# EAGLE library part L293DD (library CyberRailGuru)
PUSH-PULL 4 CHANNEL DRIVER
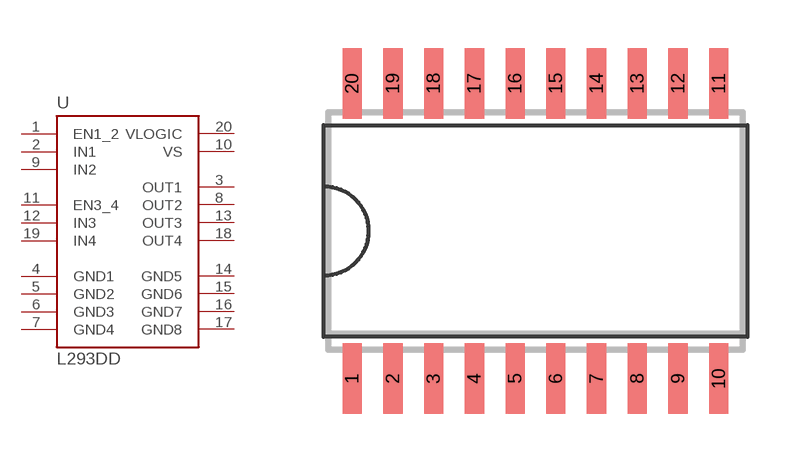
[diagram p2: symbol with the pads of SO20; footprint SO20]

Designator prefix U

## L293DD  [SO20]
1  EN1_2  in
2  IN1  in
3  OUT1  out
4  GND1  pwr
5  GND2  pwr
6  GND3  pwr
7  GND4  pwr
8  OUT2  out
9  IN2  in
10  VS  pwr
11  EN3_4  in
12  IN3  in
13  OUT3  out
14  GND5  pwr
15  GND6  pwr
16  GND7  pwr
17  GND8  pwr
18  OUT4  out
19  IN4  in
20  VLOGIC  pwr

## Footprint SO20 (pad centres in mm)
SMALL OUTLINE INTEGRATED CIRCUIT wide body 7.5 mm/JEDEC MS-013AC
smd 0.6 x 2.2: 1 -5.715,-4.6; 2 -4.445,-4.6; 3 -3.175,-4.6; 4 -1.905,-4.6; 5 -0.635,-4.6; 6 0.635,-4.6; 7 1.905,-4.6; 8 3.175,-4.6; 9 4.445,-4.6; 10 5.715,-4.6; 11 5.715,4.6; 12 4.445,4.6; 13 3.175,4.6; 14 1.905,4.6; 15 0.635,4.6; 16 -0.635,4.6; 17 -1.905,4.6; 18 -3.175,4.6; 19 -4.445,4.6; 20 -5.715,4.6